# Altium footprint library M1.6_Close_Plated.PcbLib: 1 footprints
Each footprint in its own frame and in the unit in brackets; x right, y up, seen from the top. Pads: shape width x height; smd on the part's side, far side on the other; paste and mask are expansions set on the pad; w line width, h text height; cw(c..) or ccw(c..) is an arc to the next point about the centre after c.
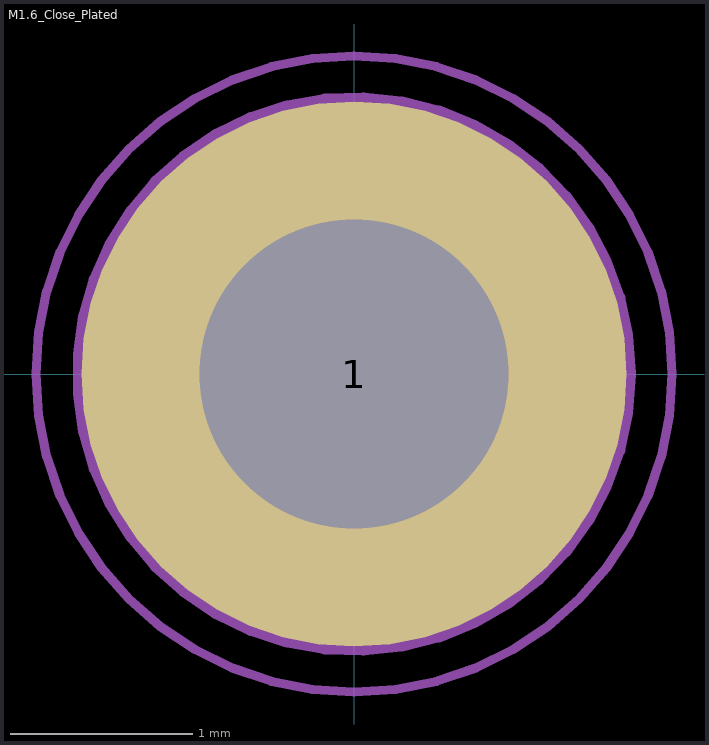
[diagram p0: the footprint, top view; thin cyan lines are the x and y axes]

## M1.6_Close_Plated [mm]
pads (1):
  round 3 hole 1.7 unplated: 1(0,0)
Mechanical 1:
  circle w0.1: c0,0 r1.5
  circle w0.1: c0,0 r0.85
  text ".Designator" at -0.625,-0.408 h0.65
Mechanical 2:
  circle w0.05: c0,0 r1.75
  lines w0.1: -0.5,0 0.5,0 ; 0,-0.5 0,0.5